# Altium footprint library ReadyButNotListed.PcbLib: 6 footprints
Each footprint in its own frame and in the unit in brackets; x right, y up, seen from the top. Pads: shape width x height; smd on the part's side, far side on the other; paste and mask are expansions set on the pad; w line width, h text height; cw(c..) or ccw(c..) is an arc to the next point about the centre after c.
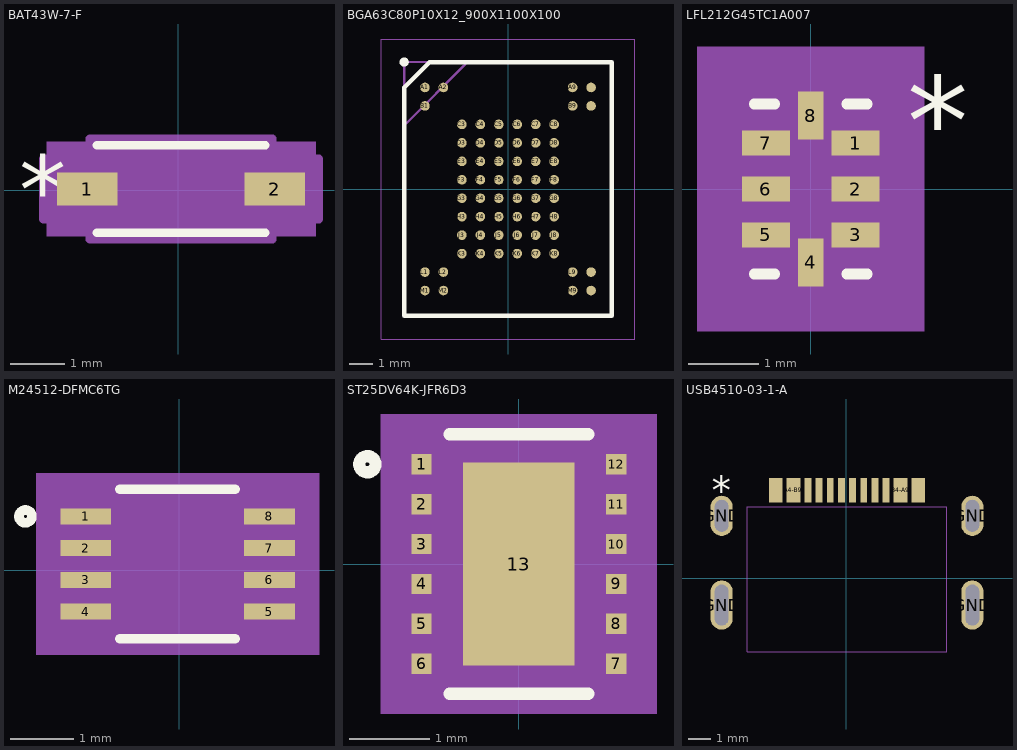
[diagram p0: the footprints below, top view; thin cyan lines are the x and y axes]

## BAT43W-7-F [mil]
pads (2):
  rect 43.75x23.65 smd paste+0 mask+0: 1(-65.91,1) 2(69.91,1)
Top Overlay:
  lines w6: -59.1,-30.57 63.1,-30.57 ; -59.1,32.57 63.1,32.57
  text "*" at -115.29,-24 h50
Mechanical 5:
  region: 99.29,-33.07 -95.29,-33.07 -95.29,35.07 99.29,35.07
Mechanical 13:
  lines w1: -54.1,-12.29 -40.81,-25.57 ; -54.1,14.29 -40.81,27.57 ; -73.79,-9.83 -73.79,11.83 -54.1,11.83 -54.1,-9.83 -73.79,-9.83 ; -54.1,-25.57 58.1,-25.57 58.1,27.57 -54.1,27.57 -54.1,-25.57 ; 58.1,-9.83 58.1,11.83 77.79,11.83 77.79,-9.83 58.1,-9.83
  text "*" at -56.6,-24 h50
Mechanical 15:
  region: -64.1,-20.83 -97.79,-20.83 -97.79,22.83 -64.1,22.83 -64.1,37.57 68.1,37.57 68.1,22.83 101.79,22.83 101.79,-20.83 68.1,-20.83 68.1,-35.57 -64.1,-35.57
  lines w6: -97.79,-20.83 -97.79,22.83 -64.1,22.83 -64.1,37.57 68.1,37.57 68.1,22.83 101.79,22.83 101.79,-20.83 68.1,-20.83 68.1,-35.57 -64.1,-35.57 -64.1,-20.83 -97.79,-20.83

## BGA63C80P10X12_900X1100X100 [mm]
pads (63):
  round 0.418 smd: A1(-3.6,4.4) A2(-2.8,4.4) A9(2.8,4.4) A10(3.6,4.4) B1(-3.6,3.6) B9(2.8,3.6) B10(3.6,3.6) C3(-2,2.8) C4(-1.2,2.8) C5(-0.4,2.8) C6(0.4,2.8) C7(1.2,2.8) C8(2,2.8) D3(-2,2) D4(-1.2,2) D5(-0.4,2) D6(0.4,2) D7(1.2,2) D8(2,2) E3(-2,1.2) E4(-1.2,1.2) E5(-0.4,1.2) E6(0.4,1.2) E7(1.2,1.2) E8(2,1.2) F3(-2,0.4) F4(-1.2,0.4) F5(-0.4,0.4) F6(0.4,0.4) F7(1.2,0.4) F8(2,0.4) G3(-2,-0.4) G4(-1.2,-0.4) G5(-0.4,-0.4) G6(0.4,-0.4) G7(1.2,-0.4) G8(2,-0.4) H3(-2,-1.2) H4(-1.2,-1.2) H5(-0.4,-1.2) H6(0.4,-1.2) H7(1.2,-1.2) H8(2,-1.2) J3(-2,-2) J4(-1.2,-2) J5(-0.4,-2) J6(0.4,-2) J7(1.2,-2) J8(2,-2) K3(-2,-2.8) K4(-1.2,-2.8) K5(-0.4,-2.8) K6(0.4,-2.8) K7(1.2,-2.8) K8(2,-2.8) L1(-3.6,-3.6) L2(-2.8,-3.6) L9(2.8,-3.6) L10(3.6,-3.6) M1(-3.6,-4.4) M2(-2.8,-4.4) M9(2.8,-4.4) M10(3.6,-4.4)
Top Overlay:
  circle w0.2: c-4.5,5.5 r0.1
  lines w0.2: -4.5,-5.5 -4.5,4.4 -3.4,5.5 4.5,5.5 4.5,-5.5 -4.5,-5.5
Mechanical 13:
  lines w0.1: -4.5,2.75 -1.75,5.5 ; -4.5,-5.5 -4.5,5.5 4.5,5.5 4.5,-5.5 -4.5,-5.5
Mechanical 15:
  lines w0.05: -5.5,-6.5 -5.5,6.5 5.5,6.5 5.5,-6.5 -5.5,-6.5
3D body "TC58BVG1S3HBAI4.stp": height 1, standoff 0, extent -4.5,-5.5 4.5,5.5

## LFL212G45TC1A007 [mil]
pads (8):
  rect 27x14 smd paste+0 mask+0: 1(25,25.59) 2(25,0) 3(25,-25.59) 5(-25,-25.59) 6(-25,0) 7(-25,25.59)
  rect 14x27 smd paste+0 mask+0: 4(0,-41) 8(0,41)
Top Overlay:
  lines w6: -31.5,-47.5 -20.1,-47.5 ; -31.5,47.5 -20.1,47.5 ; 20.1,-47.5 31.5,-47.5 ; 20.1,47.5 31.5,47.5
  text "*" at 54,13.39 h50
Mechanical 5:
  region: 63.5,-79.5 -63.5,-79.5 -63.5,79.5 63.5,79.5
Mechanical 13:
  lines w1: -26.5,-7.5 23.5,42.5 ; -26.5,-42.5 26.5,-42.5 26.5,42.5 -26.5,42.5 -26.5,-42.5 ; -26.5,-33.59 -26.5,-17.59 -26.5,-33.59 ; -26.5,-8 -26.5,8 -26.5,-8 ; -26.5,17.59 -26.5,33.59 -26.5,17.59 ; -8,-42.5 8,-42.5 -8,-42.5 ; -8,42.5 8,42.5 -8,42.5 ; 26.5,-33.59 26.5,-17.59 26.5,-33.59 ; 26.5,-8 26.5,8 26.5,-8 ; 26.5,17.59 26.5,33.59 26.5,17.59
  text "*" at -2.5,15 h50
Mechanical 15:
  region: -17,-52.5 -36.5,-52.5 -36.5,-42.59 -48.5,-42.59 -48.5,42.59 -36.5,42.59 -36.5,52.5 -17,52.5 -17,64.5 17,64.5 17,52.5 36.5,52.5 36.5,42.59 48.5,42.59 48.5,-42.59 36.5,-42.59 36.5,-52.5 17,-52.5 17,-64.5 -17,-64.5
  lines w6: -48.5,-42.59 -36.5,-42.59 -36.5,-52.5 -17,-52.5 -17,-64.5 17,-64.5 17,-52.5 36.5,-52.5 36.5,-42.59 48.5,-42.59 48.5,42.59 36.5,42.59 36.5,52.5 17,52.5 17,64.5 -17,64.5 -17,52.5 -36.5,52.5 -36.5,42.59 -48.5,42.59 -48.5,-42.59
3D body: height 10, standoff 0, extent 0,0 10,10

## M24512-DFMC6TG [mm]
pads (8):
  rect 0.8x0.25 smd paste+0 mask+0: 1(-1.475,0.852) 2(-1.475,0.352) 3(-1.475,-0.149) 4(-1.475,-0.649) 5(1.424,-0.649) 6(1.424,-0.149) 7(1.424,0.352) 8(1.424,0.852)
Top Overlay:
  circle w0.152: c-2.426,0.852 r0.102
  lines w0.152: -0.934,-1.076 0.884,-1.076 ; -0.934,1.279 0.884,1.279
Mechanical 5:
  region: 2.205,-1.33 -2.256,-1.33 -2.256,1.533 2.205,1.533
Mechanical 13:
  circle w0: c-1.074,0.852 r0.076
  lines w0: -0.33,1.152 ccw(c-0.025,1.152) 0.279,1.152
  lines w0.025: -1.575,-0.949 1.524,-0.949 1.524,1.152 -1.575,1.152 -1.575,-0.949
Mechanical 15:
  region: -1.829,-1.028 -2.129,-1.028 -2.129,1.231 -1.829,1.231 -1.829,1.406 1.778,1.406 1.778,1.231 2.078,1.231 2.078,-1.028 1.778,-1.028 1.778,-1.203 -1.829,-1.203
  lines w0.152: -2.129,-1.028 -2.129,1.231 -1.829,1.231 -1.829,1.406 1.778,1.406 1.778,1.231 2.078,1.231 2.078,-1.028 1.778,-1.028 1.778,-1.203 -1.829,-1.203 -1.829,-1.028 -2.129,-1.028

## ST25DV64K-JFR6D3 [mil]
pads (13):
  rect 10.06x10.03 smd paste+0 mask+0: 1(-48,49.21) 2(-48,29.53) 3(-48,9.84) 4(-48,-9.84) 5(-48,-29.53) 6(-48,-49.21) 7(48,-49.21) 8(48,-29.53) 9(48,-9.84) 10(48,9.84) 11(48,29.53) 12(48,49.21)
  rect 55x100 smd paste+0 mask+0: 13(0,0)
Top Overlay:
  circle w6: c-74.72,49.21 r4
  lines w6: -34.24,-64 34.24,-64 ; -34.24,64 34.24,64
Top Paste:
  region: 23.56,46.06 -23.56,46.06 -23.56,3.94 23.56,3.94
  region: 23.56,-3.94 -23.56,-3.94 -23.56,-46.06 23.56,-46.06
Mechanical 5:
  region: 68.03,-74 -68.03,-74 -68.03,74 68.03,74
Mechanical 13:
  circle w0: c-42.97,49.21 r3
  lines w0: -12,59 ccw(c0,59) 12,59
  lines w1: -59,-59 59,-59 59,59 -59,59 -59,-59
Mechanical 15:
  region: -63,-58.23 -63,58.23 -63,63 63,63 63,58.23 63,-58.23 63,-63 -63,-63
  lines w6: -63,-63 -63,-58.23 -63,58.23 -63,63 63,63 63,58.23 63,-58.23 63,-63 -63,-63

## USB4510-03-1-A [mil]
pads (16):
  rect 24x43 smd paste+0 mask+0: A1-B12(-125,155.5) A4-B9(-93.5,155.5) B1-A12(127,155.5) B4-A9(95.5,155.5)
  rect 12x43 smd paste+0 mask+0: A5(-48.2,155.5) A6(-8.8,155.5) A7(10.9,155.5) A8(50.3,155.5) B5(70,155.5) B6(30.6,155.5) B7(-28.5,155.5) B8(-68,155.5)
  oval 39x87 hole 24 slot 72 at 90 deg: GND(-220.25,-47.2) GND(222.25,-47.2)
  oval 39x71 hole 24 slot 56 at 90 deg: GND(-220.25,110.25) GND(222.25,110.25)
Top Overlay:
  text "*" at -237.5,130.5 h50
Mechanical 1:
  lines w1: -175,-130 177,-130
Mechanical 13:
  lines w1: -175,-130 -175,126 177,126 177,-130
  text "*" at -237.5,130.5 h50